# Altium schematic symbol library MicroSD_Module.SchLib: 1 symbol
Pins are listed as number, name and electrical type; pins without a type are passive.

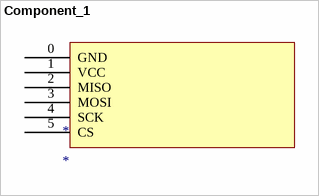
[diagram p0: symbol Component_1]

## Component_1
designator *
footprint MICROSD_MODULE
pins: 0 GND, 1 VCC, 2 MISO, 3 MOSI, 4 SCK, 5 CS